# Altium integrated library Maxim Digital Potentiometers.IntLib: 1045 symbols (part 31 of 42)
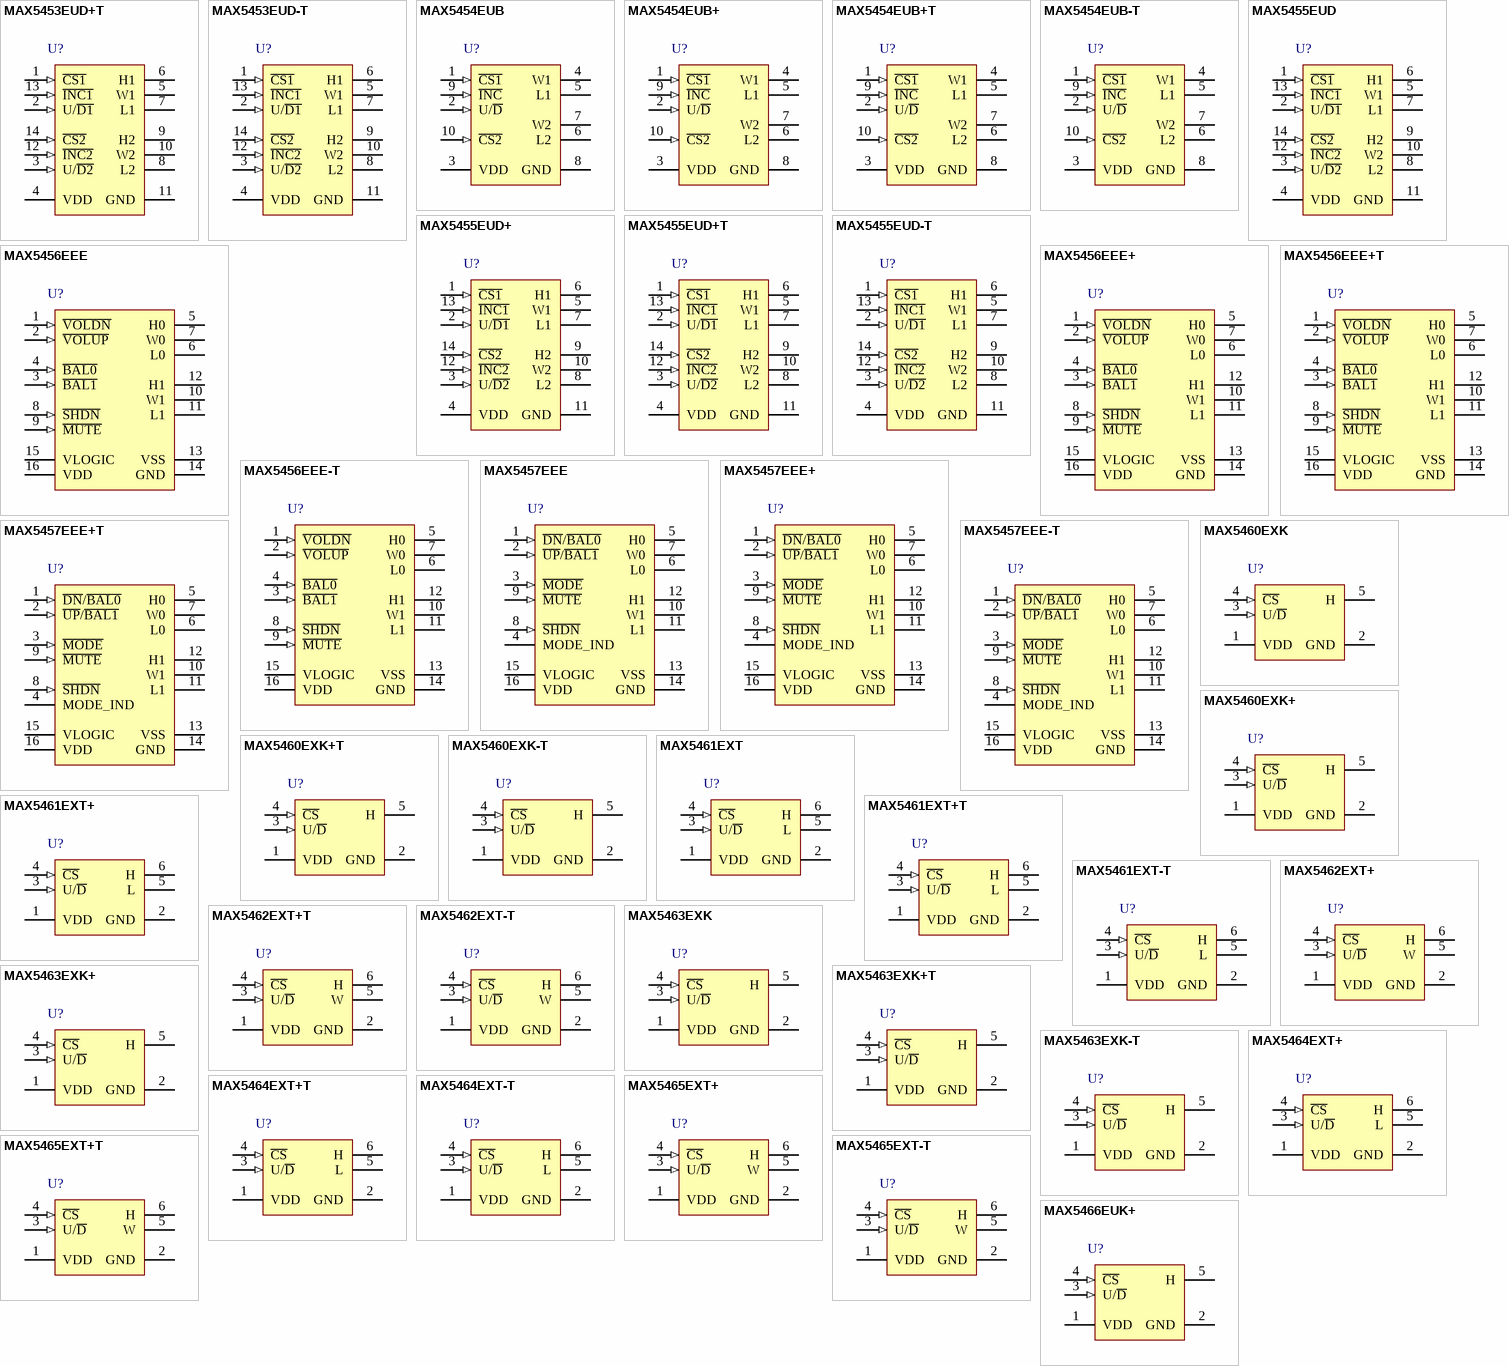
[diagram p59: symbols MAX5453EUD+T to MAX5466EUK+]

## MAX5455EUD
designator U?
Dual, Up/Down Interface Digital Potentiometers with Up/Down Control Interface, Volatile, Linear Taper, 256 Steps, -40 to 85 degC, 14-pin TSSOP (U14-1); PartNumber: MAX5455EUD; DatasheetVersion: Rev. 2; PackageVersion: Rev. L, 07/2010; PackageReference: U14-1; PackageDescription: 14-Pin Thin Shrink Small-Outline Package (U14-1), Body 5 x 4.4 mm, Pitch 0.65 mm; Supplier 1: Mouser; Supplier Part Number 1: N/A; Control Interface: Up/Down; Mounting Technology: Surface Mount; Code_JEDEC: MO-153; ComponentLink1Description: Manufacturer URL; ComponentLink1URL: http://www.maximintegrated.com/; ComponentLink2Description: Datasheet; ComponentLink2URL: http://datasheets.maximintegrated.com/en/ds/MAX5450-MAX5455.pdf; ComponentLink3Description: Package Specification; ComponentLink3URL: http://pdfserv.maximintegrated.com/package_dwgs/21-0066.PDF
footprint MAXM-U14-1_N (SOP, 14-Leads, Body 5x4.4mm, Pitch 0.65mm, IPC Medium Density)
footprint MAXM-U14-1_L (SOP, 14-Leads, Body 5x4.4mm, Pitch 0.65mm, IPC High Density)
footprint MAXM-U14-1_M (SOP, 14-Leads, Body 5x4.4mm, Pitch 0.65mm, IPC Low Density)
pins: 1 ~{CS1} (in) "Chip-Select Input of Resistor 1. Drive low to change wiper position W1 through I\N\C\ and U/D\.", 2 U/~{D1} (in) "Up/Down Control Input of Resistor 1. With U/D\1\ low, a high-to-low I\N\C\1\ transition decrements wiper position W1. With U/D\1\ high, a high-to-low I\N\C\1\ transition increments wiper position W1.", 3 U/~{D2} (in) "Up/Down Control Input of Resistor 2. With U/D\2\ low, a high-to-low I\N\C\2\ transition decrements wiper position W2.  With U/D\2\ high, a high-to-low I\N\C\2\ transition increments wiper position W2.", 4 VDD (power) "Power Supply", 5 W1 "Wiper Terminal of Resistor 1", 6 H1 "High Terminal of Resistor 1", 7 L1 "Low Terminal of Resistor 1", 8 L2 "Low Terminal of Resistor 2", 9 H2 "High Terminal of Resistor 2", 10 W2 "Wiper Terminal of Resistor 2", 11 GND (power) "Ground", 12 ~{INC2} (in) "Wiper Increment Control Input. With C\S\2\ low, a high-to-low transition increments (U/D\2\ high) or decrements (U/D\2\ low) wiper position W2.", 13 ~{INC1} (in) "Wiper Increment Control Input. With C\S\1\ low, a high-to-low transition increments (U/D\1\ high) or decrements (U/D\1\ low) wiper position W1.", 14 ~{CS2} (in) "Chip-Select Input of Resistor 2.  Drive low to change wiper position W2 through I\N\C\ and U/D\."

## MAX5455EUD+
designator U?
Dual, Up/Down Interface Digital Potentiometers with Up/Down Control Interface, Volatile, Linear Taper, 256 Steps, -40 to 85 degC, 14-pin TSSOP (U14+1), Pb-Free; PartNumber: MAX5455EUD+; DatasheetVersion: Rev. 2; PackageVersion: Rev. L, 07/2010; PackageReference: U14+1; PackageDescription: 14-Pin Thin Shrink Small-Outline Package (U14+1), Body 5 x 4.4 mm, Pitch 0.65 mm; Supplier 1: Digi-Key; Supplier Part Number 1: MAX5455EUD+-ND; Supplier 2: Farnell; Supplier Part Number 2: 2071780; Supplier 3: Mouser; Supplier Part Number 3: 700-MAX5455EUD; Control Interface: Up/Down; Mounting Technology: Surface Mount; Code_JEDEC: MO-153; ComponentLink1Description: Manufacturer URL; ComponentLink1URL: http://www.maximintegrated.com/; ComponentLink2Description: Datasheet; ComponentLink2URL: http://datasheets.maximintegrated.com/en/ds/MAX5450-MAX5455.pdf; ComponentLink3Description: Package Specification; ComponentLink3URL: http://pdfserv.maximintegrated.com/package_dwgs/21-0066.PDF
footprint MAXM-U14+1_N (SOP, 14-Leads, Body 5x4.4mm, Pitch 0.65mm, IPC Medium Density)
footprint MAXM-U14+1_L (SOP, 14-Leads, Body 5x4.4mm, Pitch 0.65mm, IPC High Density)
footprint MAXM-U14+1_M (SOP, 14-Leads, Body 5x4.4mm, Pitch 0.65mm, IPC Low Density)
pins: 1 ~{CS1} (in) "Chip-Select Input of Resistor 1. Drive low to change wiper position W1 through I\N\C\ and U/D\.", 2 U/~{D1} (in) "Up/Down Control Input of Resistor 1. With U/D\1\ low, a high-to-low I\N\C\1\ transition decrements wiper position W1. With U/D\1\ high, a high-to-low I\N\C\1\ transition increments wiper position W1.", 3 U/~{D2} (in) "Up/Down Control Input of Resistor 2. With U/D\2\ low, a high-to-low I\N\C\2\ transition decrements wiper position W2.  With U/D\2\ high, a high-to-low I\N\C\2\ transition increments wiper position W2.", 4 VDD (power) "Power Supply", 5 W1 "Wiper Terminal of Resistor 1", 6 H1 "High Terminal of Resistor 1", 7 L1 "Low Terminal of Resistor 1", 8 L2 "Low Terminal of Resistor 2", 9 H2 "High Terminal of Resistor 2", 10 W2 "Wiper Terminal of Resistor 2", 11 GND (power) "Ground", 12 ~{INC2} (in) "Wiper Increment Control Input. With C\S\2\ low, a high-to-low transition increments (U/D\2\ high) or decrements (U/D\2\ low) wiper position W2.", 13 ~{INC1} (in) "Wiper Increment Control Input. With C\S\1\ low, a high-to-low transition increments (U/D\1\ high) or decrements (U/D\1\ low) wiper position W1.", 14 ~{CS2} (in) "Chip-Select Input of Resistor 2.  Drive low to change wiper position W2 through I\N\C\ and U/D\."

## MAX5455EUD+T
designator U?
Dual, Up/Down Interface Digital Potentiometers with Up/Down Control Interface, Volatile, Linear Taper, 256 Steps, -40 to 85 degC, 14-pin TSSOP (U14+1), Pb-Free, Tape and Reel; PartNumber: MAX5455EUD+T; DatasheetVersion: Rev. 2; PackageVersion: Rev. L, 07/2010; PackageReference: U14+1; PackageDescription: 14-Pin Thin Shrink Small-Outline Package (U14+1), Body 5 x 4.4 mm, Pitch 0.65 mm; Supplier 1: Digi-Key; Supplier Part Number 1: MAX5455EUD+T-ND; Supplier 2: Mouser; Supplier Part Number 2: 700-MAX5455EUDT; Control Interface: Up/Down; Mounting Technology: Surface Mount; Code_JEDEC: MO-153; ComponentLink1Description: Manufacturer URL; ComponentLink1URL: http://www.maximintegrated.com/; ComponentLink2Description: Datasheet; ComponentLink2URL: http://datasheets.maximintegrated.com/en/ds/MAX5450-MAX5455.pdf; ComponentLink3Description: Package Specification; ComponentLink3URL: http://pdfserv.maximintegrated.com/package_dwgs/21-0066.PDF
footprint MAXM-U14+1_N (SOP, 14-Leads, Body 5x4.4mm, Pitch 0.65mm, IPC Medium Density)
footprint MAXM-U14+1_L (SOP, 14-Leads, Body 5x4.4mm, Pitch 0.65mm, IPC High Density)
footprint MAXM-U14+1_M (SOP, 14-Leads, Body 5x4.4mm, Pitch 0.65mm, IPC Low Density)
pins: 1 ~{CS1} (in) "Chip-Select Input of Resistor 1. Drive low to change wiper position W1 through I\N\C\ and U/D\.", 2 U/~{D1} (in) "Up/Down Control Input of Resistor 1. With U/D\1\ low, a high-to-low I\N\C\1\ transition decrements wiper position W1. With U/D\1\ high, a high-to-low I\N\C\1\ transition increments wiper position W1.", 3 U/~{D2} (in) "Up/Down Control Input of Resistor 2. With U/D\2\ low, a high-to-low I\N\C\2\ transition decrements wiper position W2.  With U/D\2\ high, a high-to-low I\N\C\2\ transition increments wiper position W2.", 4 VDD (power) "Power Supply", 5 W1 "Wiper Terminal of Resistor 1", 6 H1 "High Terminal of Resistor 1", 7 L1 "Low Terminal of Resistor 1", 8 L2 "Low Terminal of Resistor 2", 9 H2 "High Terminal of Resistor 2", 10 W2 "Wiper Terminal of Resistor 2", 11 GND (power) "Ground", 12 ~{INC2} (in) "Wiper Increment Control Input. With C\S\2\ low, a high-to-low transition increments (U/D\2\ high) or decrements (U/D\2\ low) wiper position W2.", 13 ~{INC1} (in) "Wiper Increment Control Input. With C\S\1\ low, a high-to-low transition increments (U/D\1\ high) or decrements (U/D\1\ low) wiper position W1.", 14 ~{CS2} (in) "Chip-Select Input of Resistor 2.  Drive low to change wiper position W2 through I\N\C\ and U/D\."

## MAX5455EUD-T
designator U?
Dual, Up/Down Interface Digital Potentiometers with Up/Down Control Interface, Volatile, Linear Taper, 256 Steps, -40 to 85 degC, 14-pin TSSOP (U14-1), Tape and Reel; PartNumber: MAX5455EUD-T; DatasheetVersion: Rev. 2; PackageVersion: Rev. L, 07/2010; PackageReference: U14-1; PackageDescription: 14-Pin Thin Shrink Small-Outline Package (U14-1), Body 5 x 4.4 mm, Pitch 0.65 mm; Supplier 1: Mouser; Supplier Part Number 1: N/A; Control Interface: Up/Down; Mounting Technology: Surface Mount; Code_JEDEC: MO-153; ComponentLink1Description: Manufacturer URL; ComponentLink1URL: http://www.maximintegrated.com/; ComponentLink2Description: Datasheet; ComponentLink2URL: http://datasheets.maximintegrated.com/en/ds/MAX5450-MAX5455.pdf; ComponentLink3Description: Package Specification; ComponentLink3URL: http://pdfserv.maximintegrated.com/package_dwgs/21-0066.PDF
footprint MAXM-U14-1_N (SOP, 14-Leads, Body 5x4.4mm, Pitch 0.65mm, IPC Medium Density)
footprint MAXM-U14-1_L (SOP, 14-Leads, Body 5x4.4mm, Pitch 0.65mm, IPC High Density)
footprint MAXM-U14-1_M (SOP, 14-Leads, Body 5x4.4mm, Pitch 0.65mm, IPC Low Density)
pins: 1 ~{CS1} (in) "Chip-Select Input of Resistor 1. Drive low to change wiper position W1 through I\N\C\ and U/D\.", 2 U/~{D1} (in) "Up/Down Control Input of Resistor 1. With U/D\1\ low, a high-to-low I\N\C\1\ transition decrements wiper position W1. With U/D\1\ high, a high-to-low I\N\C\1\ transition increments wiper position W1.", 3 U/~{D2} (in) "Up/Down Control Input of Resistor 2. With U/D\2\ low, a high-to-low I\N\C\2\ transition decrements wiper position W2.  With U/D\2\ high, a high-to-low I\N\C\2\ transition increments wiper position W2.", 4 VDD (power) "Power Supply", 5 W1 "Wiper Terminal of Resistor 1", 6 H1 "High Terminal of Resistor 1", 7 L1 "Low Terminal of Resistor 1", 8 L2 "Low Terminal of Resistor 2", 9 H2 "High Terminal of Resistor 2", 10 W2 "Wiper Terminal of Resistor 2", 11 GND (power) "Ground", 12 ~{INC2} (in) "Wiper Increment Control Input. With C\S\2\ low, a high-to-low transition increments (U/D\2\ high) or decrements (U/D\2\ low) wiper position W2.", 13 ~{INC1} (in) "Wiper Increment Control Input. With C\S\1\ low, a high-to-low transition increments (U/D\1\ high) or decrements (U/D\1\ low) wiper position W1.", 14 ~{CS2} (in) "Chip-Select Input of Resistor 2.  Drive low to change wiper position W2 through I\N\C\ and U/D\."

## MAX5456EEE
designator U?
Stereo Audio Taper Potentiometer with Debounced Pushbutton Up/Down Control Interface, Volatile, Log Taper, 32 Steps, -40 to 85 degC, 16-pin QSOP (E16-1); PartNumber: MAX5456EEE; DatasheetVersion: Rev. 2; PackageVersion: Rev. K, 04/2012; PackageReference: E16-1; PackageDescription: 16-Pin Quarter Small-Outline Package (E16-1), Body 4.90 x 3.89 mm, Pitch 0.635 mm; Supplier 1: Mouser; Supplier Part Number 1: N/A; Applications: Audio Control; Control Interface: Debounced Pushbutton Up/Down; Mounting Technology: Surface Mount; Code_JEDEC: MO137; ComponentLink1Description: Manufacturer URL; ComponentLink1URL: http://www.maximintegrated.com/; ComponentLink2Description: Datasheet; ComponentLink2URL: http://datasheets.maximintegrated.com/en/ds/MAX5456-MAX5457.pdf; ComponentLink3Description: Package Specification; ComponentLink3URL: http://pdfserv.maximintegrated.com/package_dwgs/21-0055.PDF
footprint MAXM-E16-1_N (SOP, 16-Leads, Body 4.9x3.89mm, Pitch 0.635mm, IPC Medium Density)
footprint MAXM-E16-1_L (SOP, 16-Leads, Body 4.9x3.89mm, Pitch 0.635mm, IPC High Density)
footprint MAXM-E16-1_M (SOP, 16-Leads, Body 4.9x3.89mm, Pitch 0.635mm, IPC Low Density)
pins: 1 ~{VOLDN} (in) "Downward Volume-Control Input. Pressing V\O\L\D\N\ moves both wipers towards the L terminals. V\O\L\D\N\ is internally pulled up with 50k ohm to VLOGIC.", 2 ~{VOLUP} (in) "Upward Volume-Control Input. Pressing V\O\L\U\P\ moves both wipers towards the H terminals. V\O\L\U\P\ is internally pulled up with 50k ohm to VLOGIC.", 3 ~{BAL1} (in) "Channel 1 Balance-Control Input. Pressing B\A\L\1\ moves the balance towards channel 1. B\A\L\1\ is internally pulled up with 50k ohm to VLOGIC.", 4 ~{BAL0} (in) "Channel 0 Balance-Control Input. Pressing B\A\L\0\ moves the balance towards channel 0. B\A\L\0\ is internally pulled up with 50k ohm to VLOGIC.", 5 H0 "Potentiometer 0 High Terminal. H0 and L0 terminals can be reversed.", 6 L0 "Potentiometer 0 Low Terminal. L0 and H0 terminals can be reversed.", 7 W0 "Potentiometer 0 Wiper Terminal", 8 ~{SHDN} (in) "Active-Low Shutdown Input. In shutdown mode, the MAX5456/MAX5457 store the last wiper settings. The wipers move to the L end of the resistor string, and the H end of the resistor string disconnects from the signal input. (See Datasheet)", 9 ~{MUTE} (in) "Mute Input. When M\U\T\E\ is low, the wiper goes to the highest attenuation setting (see Table 1). M\U\T\E\ is internally pulled up with 50k ohm to VLOGIC.", 10 W1 "Potentiometer 1 Wiper Terminal", 11 L1 "Potentiometer 1 Low Terminal. L1 and H1 terminals can be reversed.", 12 H1 "Potentiometer 1 High Terminal. H1 and L1 terminals can be reversed.", 13 VSS (power) "Negative Power Supply. Bypass with 0.1uF to ground.", 14 GND (power) "Ground", 15 VLOGIC (power) "Digital Logic Power Supply. Bypass with 0.1uF to ground.", 16 VDD (power) "Analog Power Supply. Bypass with 0.1uF to ground."

## MAX5456EEE+
designator U?
Stereo Audio Taper Potentiometer with Debounced Pushbutton Up/Down Control Interface, Volatile, Log Taper, 32 Steps, -40 to 85 degC, 16-pin QSOP (E16+1), Pb-Free; PartNumber: MAX5456EEE+; DatasheetVersion: Rev. 2; PackageVersion: Rev. K, 04/2012; PackageReference: E16+1; PackageDescription: 16-Pin Quarter Small-Outline Package (E16+1), Body 4.90 x 3.89 mm, Pitch 0.635 mm; Supplier 1: Digi-Key; Supplier Part Number 1: MAX5456EEE+-ND; Supplier 2: Farnell; Supplier Part Number 2: 1714916; Supplier 3: Newark; Supplier Part Number 3: 37K8018; Supplier 4: Mouser; Supplier Part Number 4: 700-MAX5456EEE; Applications: Audio Control; Control Interface: Debounced Pushbutton Up/Down; Mounting Technology: Surface Mount; Code_JEDEC: MO137; ComponentLink1Description: Manufacturer URL; ComponentLink1URL: http://www.maximintegrated.com/; ComponentLink2Description: Datasheet; ComponentLink2URL: http://datasheets.maximintegrated.com/en/ds/MAX5456-MAX5457.pdf; ComponentLink3Description: Package Specification; ComponentLink3URL: http://pdfserv.maximintegrated.com/package_dwgs/21-0055.PDF
footprint MAXM-E16+1_N (SOP, 16-Leads, Body 4.9x3.89mm, Pitch 0.635mm, IPC Medium Density)
footprint MAXM-E16+1_L (SOP, 16-Leads, Body 4.9x3.89mm, Pitch 0.635mm, IPC High Density)
footprint MAXM-E16+1_M (SOP, 16-Leads, Body 4.9x3.89mm, Pitch 0.635mm, IPC Low Density)
pins: 1 ~{VOLDN} (in) "Downward Volume-Control Input. Pressing V\O\L\D\N\ moves both wipers towards the L terminals. V\O\L\D\N\ is internally pulled up with 50k ohm to VLOGIC.", 2 ~{VOLUP} (in) "Upward Volume-Control Input. Pressing V\O\L\U\P\ moves both wipers towards the H terminals. V\O\L\U\P\ is internally pulled up with 50k ohm to VLOGIC.", 3 ~{BAL1} (in) "Channel 1 Balance-Control Input. Pressing B\A\L\1\ moves the balance towards channel 1. B\A\L\1\ is internally pulled up with 50k ohm to VLOGIC.", 4 ~{BAL0} (in) "Channel 0 Balance-Control Input. Pressing B\A\L\0\ moves the balance towards channel 0. B\A\L\0\ is internally pulled up with 50k ohm to VLOGIC.", 5 H0 "Potentiometer 0 High Terminal. H0 and L0 terminals can be reversed.", 6 L0 "Potentiometer 0 Low Terminal. L0 and H0 terminals can be reversed.", 7 W0 "Potentiometer 0 Wiper Terminal", 8 ~{SHDN} (in) "Active-Low Shutdown Input. In shutdown mode, the MAX5456/MAX5457 store the last wiper settings. The wipers move to the L end of the resistor string, and the H end of the resistor string disconnects from the signal input. (See Datasheet)", 9 ~{MUTE} (in) "Mute Input. When M\U\T\E\ is low, the wiper goes to the highest attenuation setting (see Table 1). M\U\T\E\ is internally pulled up with 50k ohm to VLOGIC.", 10 W1 "Potentiometer 1 Wiper Terminal", 11 L1 "Potentiometer 1 Low Terminal. L1 and H1 terminals can be reversed.", 12 H1 "Potentiometer 1 High Terminal. H1 and L1 terminals can be reversed.", 13 VSS (power) "Negative Power Supply. Bypass with 0.1uF to ground.", 14 GND (power) "Ground", 15 VLOGIC (power) "Digital Logic Power Supply. Bypass with 0.1uF to ground.", 16 VDD (power) "Analog Power Supply. Bypass with 0.1uF to ground."

## MAX5456EEE+T
designator U?
Stereo Audio Taper Potentiometer with Debounced Pushbutton Up/Down Control Interface, Volatile, Log Taper, 32 Steps, -40 to 85 degC, 16-pin QSOP (E16+1), Pb-Free, Tape and Reel; PartNumber: MAX5456EEE+T; DatasheetVersion: Rev. 2; PackageVersion: Rev. K, 04/2012; PackageReference: E16+1; PackageDescription: 16-Pin Quarter Small-Outline Package (E16+1), Body 4.90 x 3.89 mm, Pitch 0.635 mm; Supplier 1: Digi-Key; Supplier Part Number 1: MAX5456EEE+T-ND; Supplier 2: Mouser; Supplier Part Number 2: 700-MAX5456EEET; Applications: Audio Control; Control Interface: Debounced Pushbutton Up/Down; Mounting Technology: Surface Mount; Code_JEDEC: MO137; ComponentLink1Description: Manufacturer URL; ComponentLink1URL: http://www.maximintegrated.com/; ComponentLink2Description: Datasheet; ComponentLink2URL: http://datasheets.maximintegrated.com/en/ds/MAX5456-MAX5457.pdf; ComponentLink3Description: Package Specification; ComponentLink3URL: http://pdfserv.maximintegrated.com/package_dwgs/21-0055.PDF
footprint MAXM-E16+1_N (SOP, 16-Leads, Body 4.9x3.89mm, Pitch 0.635mm, IPC Medium Density)
footprint MAXM-E16+1_L (SOP, 16-Leads, Body 4.9x3.89mm, Pitch 0.635mm, IPC High Density)
footprint MAXM-E16+1_M (SOP, 16-Leads, Body 4.9x3.89mm, Pitch 0.635mm, IPC Low Density)
pins: 1 ~{VOLDN} (in) "Downward Volume-Control Input. Pressing V\O\L\D\N\ moves both wipers towards the L terminals. V\O\L\D\N\ is internally pulled up with 50k ohm to VLOGIC.", 2 ~{VOLUP} (in) "Upward Volume-Control Input. Pressing V\O\L\U\P\ moves both wipers towards the H terminals. V\O\L\U\P\ is internally pulled up with 50k ohm to VLOGIC.", 3 ~{BAL1} (in) "Channel 1 Balance-Control Input. Pressing B\A\L\1\ moves the balance towards channel 1. B\A\L\1\ is internally pulled up with 50k ohm to VLOGIC.", 4 ~{BAL0} (in) "Channel 0 Balance-Control Input. Pressing B\A\L\0\ moves the balance towards channel 0. B\A\L\0\ is internally pulled up with 50k ohm to VLOGIC.", 5 H0 "Potentiometer 0 High Terminal. H0 and L0 terminals can be reversed.", 6 L0 "Potentiometer 0 Low Terminal. L0 and H0 terminals can be reversed.", 7 W0 "Potentiometer 0 Wiper Terminal", 8 ~{SHDN} (in) "Active-Low Shutdown Input. In shutdown mode, the MAX5456/MAX5457 store the last wiper settings. The wipers move to the L end of the resistor string, and the H end of the resistor string disconnects from the signal input. (See Datasheet)", 9 ~{MUTE} (in) "Mute Input. When M\U\T\E\ is low, the wiper goes to the highest attenuation setting (see Table 1). M\U\T\E\ is internally pulled up with 50k ohm to VLOGIC.", 10 W1 "Potentiometer 1 Wiper Terminal", 11 L1 "Potentiometer 1 Low Terminal. L1 and H1 terminals can be reversed.", 12 H1 "Potentiometer 1 High Terminal. H1 and L1 terminals can be reversed.", 13 VSS (power) "Negative Power Supply. Bypass with 0.1uF to ground.", 14 GND (power) "Ground", 15 VLOGIC (power) "Digital Logic Power Supply. Bypass with 0.1uF to ground.", 16 VDD (power) "Analog Power Supply. Bypass with 0.1uF to ground."

## MAX5456EEE-T
designator U?
Stereo Audio Taper Potentiometer with Debounced Pushbutton Up/Down Control Interface, Volatile, Log Taper, 32 Steps, -40 to 85 degC, 16-pin QSOP (E16-1), Tape and Reel; PartNumber: MAX5456EEE-T; DatasheetVersion: Rev. 2; PackageVersion: Rev. K, 04/2012; PackageReference: E16-1; PackageDescription: 16-Pin Quarter Small-Outline Package (E16-1), Body 4.90 x 3.89 mm, Pitch 0.635 mm; Supplier 1: Mouser; Supplier Part Number 1: N/A; Applications: Audio Control; Control Interface: Debounced Pushbutton Up/Down; Mounting Technology: Surface Mount; Code_JEDEC: MO137; ComponentLink1Description: Manufacturer URL; ComponentLink1URL: http://www.maximintegrated.com/; ComponentLink2Description: Datasheet; ComponentLink2URL: http://datasheets.maximintegrated.com/en/ds/MAX5456-MAX5457.pdf; ComponentLink3Description: Package Specification; ComponentLink3URL: http://pdfserv.maximintegrated.com/package_dwgs/21-0055.PDF
footprint MAXM-E16-1_N (SOP, 16-Leads, Body 4.9x3.89mm, Pitch 0.635mm, IPC Medium Density)
footprint MAXM-E16-1_L (SOP, 16-Leads, Body 4.9x3.89mm, Pitch 0.635mm, IPC High Density)
footprint MAXM-E16-1_M (SOP, 16-Leads, Body 4.9x3.89mm, Pitch 0.635mm, IPC Low Density)
pins: 1 ~{VOLDN} (in) "Downward Volume-Control Input. Pressing V\O\L\D\N\ moves both wipers towards the L terminals. V\O\L\D\N\ is internally pulled up with 50k ohm to VLOGIC.", 2 ~{VOLUP} (in) "Upward Volume-Control Input. Pressing V\O\L\U\P\ moves both wipers towards the H terminals. V\O\L\U\P\ is internally pulled up with 50k ohm to VLOGIC.", 3 ~{BAL1} (in) "Channel 1 Balance-Control Input. Pressing B\A\L\1\ moves the balance towards channel 1. B\A\L\1\ is internally pulled up with 50k ohm to VLOGIC.", 4 ~{BAL0} (in) "Channel 0 Balance-Control Input. Pressing B\A\L\0\ moves the balance towards channel 0. B\A\L\0\ is internally pulled up with 50k ohm to VLOGIC.", 5 H0 "Potentiometer 0 High Terminal. H0 and L0 terminals can be reversed.", 6 L0 "Potentiometer 0 Low Terminal. L0 and H0 terminals can be reversed.", 7 W0 "Potentiometer 0 Wiper Terminal", 8 ~{SHDN} (in) "Active-Low Shutdown Input. In shutdown mode, the MAX5456/MAX5457 store the last wiper settings. The wipers move to the L end of the resistor string, and the H end of the resistor string disconnects from the signal input. (See Datasheet)", 9 ~{MUTE} (in) "Mute Input. When M\U\T\E\ is low, the wiper goes to the highest attenuation setting (see Table 1). M\U\T\E\ is internally pulled up with 50k ohm to VLOGIC.", 10 W1 "Potentiometer 1 Wiper Terminal", 11 L1 "Potentiometer 1 Low Terminal. L1 and H1 terminals can be reversed.", 12 H1 "Potentiometer 1 High Terminal. H1 and L1 terminals can be reversed.", 13 VSS (power) "Negative Power Supply. Bypass with 0.1uF to ground.", 14 GND (power) "Ground", 15 VLOGIC (power) "Digital Logic Power Supply. Bypass with 0.1uF to ground.", 16 VDD (power) "Analog Power Supply. Bypass with 0.1uF to ground."

## MAX5457EEE
designator U?
Stereo Audio Taper Potentiometer with Debounced Pushbutton Up/Down Control Interface, Volatile, Log Taper, 32 Steps, -40 to 85 degC, 16-pin QSOP (E16-1); PartNumber: MAX5457EEE; DatasheetVersion: Rev. 2; PackageVersion: Rev. K, 04/2012; PackageReference: E16-1; PackageDescription: 16-Pin Quarter Small-Outline Package (E16-1), Body 4.90 x 3.89 mm, Pitch 0.635 mm; Supplier 1: Mouser; Supplier Part Number 1: N/A; Applications: Audio Control; Control Interface: Debounced Pushbutton Up/Down; Mounting Technology: Surface Mount; Code_JEDEC: MO137; ComponentLink1Description: Manufacturer URL; ComponentLink1URL: http://www.maximintegrated.com/; ComponentLink2Description: Datasheet; ComponentLink2URL: http://datasheets.maximintegrated.com/en/ds/MAX5456-MAX5457.pdf; ComponentLink3Description: Package Specification; ComponentLink3URL: http://pdfserv.maximintegrated.com/package_dwgs/21-0055.PDF
footprint MAXM-E16-1_N (SOP, 16-Leads, Body 4.9x3.89mm, Pitch 0.635mm, IPC Medium Density)
footprint MAXM-E16-1_L (SOP, 16-Leads, Body 4.9x3.89mm, Pitch 0.635mm, IPC High Density)
footprint MAXM-E16-1_M (SOP, 16-Leads, Body 4.9x3.89mm, Pitch 0.635mm, IPC Low Density)
pins: 1 ~{DN}/~{BAL0} (in) "Downward Volume/Channel 0 Balance-Control Input. In volume mode, pressing D\N\/B\A\L\0\ moves both wipers towards the L terminals. In balance mode, pressing D\N\/B\A\L\0\ moves the balance towards channel 0. D\N\/B\A\L\0\ is (See Datasheet)", 2 ~{UP}/~{BAL1} (in) "Upward Volume/Channel 1 Balance-Control Input. In volume mode, pressing U\P\/B\A\L\1\ moves both wipers towards the H terminals. In balance mode, pressing U\P\/B\A\L\1\ moves the balance towards channel 1. U\P\/B\A\L\1\ is (See Datasheet)", 3 ~{MODE} (in) "Volume/Balance Control. Each transition from high to low toggles between volume and balance modes. M\O\D\E\ is pulled high internally with a 50k ohm resistor to VLOGIC. On power-up, the MAX5457 is in volume-control mode.", 4 MODE_IND (oc) "Volume-Control/Balance-Control Mode Indicator Open-Drain Output. Connect to an LED through a resistor to VLOGIC. When the LED is on, the MAX5457 is in balancecontrol mode. When the LED is off, the MAX5457 is in (See Datasheet)", 5 H0 "Potentiometer 0 High Terminal. H0 and L0 terminals can be reversed.", 6 L0 "Potentiometer 0 Low Terminal. L0 and H0 terminals can be reversed.", 7 W0 "Potentiometer 0 Wiper Terminal", 8 ~{SHDN} (in) "Active-Low Shutdown Input. In shutdown mode, the MAX5456/MAX5457 store the last wiper settings. The wipers move to the L end of the resistor string, and the H end of the resistor string disconnects from the signal input. (See Datasheet)", 9 ~{MUTE} (in) "Mute Input. When M\U\T\E\ is low, the wiper goes to the highest attenuation setting (see Table 1). M\U\T\E\ is internally pulled up with 50k ohm to VLOGIC.", 10 W1 "Potentiometer 1 Wiper Terminal", 11 L1 "Potentiometer 1 Low Terminal. L1 and H1 terminals can be reversed.", 12 H1 "Potentiometer 1 High Terminal. H1 and L1 terminals can be reversed.", 13 VSS (power) "Negative Power Supply. Bypass with 0.1uF to ground.", 14 GND (power) "Ground", 15 VLOGIC (power) "Digital Logic Power Supply. Bypass with 0.1uF to ground.", 16 VDD (power) "Analog Power Supply. Bypass with 0.1uF to ground."

## MAX5457EEE+
designator U?
Stereo Audio Taper Potentiometer with Debounced Pushbutton Up/Down Control Interface, Volatile, Log Taper, 32 Steps, -40 to 85 degC, 16-pin QSOP (E16+1), Pb-Free; PartNumber: MAX5457EEE+; DatasheetVersion: Rev. 2; PackageVersion: Rev. K, 04/2012; PackageReference: E16+1; PackageDescription: 16-Pin Quarter Small-Outline Package (E16+1), Body 4.90 x 3.89 mm, Pitch 0.635 mm; Supplier 1: Digi-Key; Supplier Part Number 1: MAX5457EEE+-ND; Supplier 2: Newark; Supplier Part Number 2: 37K8024; Supplier 3: Mouser; Supplier Part Number 3: 700-MAX5457EEE; Applications: Audio Control; Control Interface: Debounced Pushbutton Up/Down; Mounting Technology: Surface Mount; Code_JEDEC: MO137; ComponentLink1Description: Manufacturer URL; ComponentLink1URL: http://www.maximintegrated.com/; ComponentLink2Description: Datasheet; ComponentLink2URL: http://datasheets.maximintegrated.com/en/ds/MAX5456-MAX5457.pdf; ComponentLink3Description: Package Specification; ComponentLink3URL: http://pdfserv.maximintegrated.com/package_dwgs/21-0055.PDF
footprint MAXM-E16+1_N (SOP, 16-Leads, Body 4.9x3.89mm, Pitch 0.635mm, IPC Medium Density)
footprint MAXM-E16+1_L (SOP, 16-Leads, Body 4.9x3.89mm, Pitch 0.635mm, IPC High Density)
footprint MAXM-E16+1_M (SOP, 16-Leads, Body 4.9x3.89mm, Pitch 0.635mm, IPC Low Density)
pins: 1 ~{DN}/~{BAL0} (in) "Downward Volume/Channel 0 Balance-Control Input. In volume mode, pressing D\N\/B\A\L\0\ moves both wipers towards the L terminals. In balance mode, pressing D\N\/B\A\L\0\ moves the balance towards channel 0. D\N\/B\A\L\0\ is (See Datasheet)", 2 ~{UP}/~{BAL1} (in) "Upward Volume/Channel 1 Balance-Control Input. In volume mode, pressing U\P\/B\A\L\1\ moves both wipers towards the H terminals. In balance mode, pressing U\P\/B\A\L\1\ moves the balance towards channel 1. U\P\/B\A\L\1\ is (See Datasheet)", 3 ~{MODE} (in) "Volume/Balance Control. Each transition from high to low toggles between volume and balance modes. M\O\D\E\ is pulled high internally with a 50k ohm resistor to VLOGIC. On power-up, the MAX5457 is in volume-control mode.", 4 MODE_IND (oc) "Volume-Control/Balance-Control Mode Indicator Open-Drain Output. Connect to an LED through a resistor to VLOGIC. When the LED is on, the MAX5457 is in balancecontrol mode. When the LED is off, the MAX5457 is in (See Datasheet)", 5 H0 "Potentiometer 0 High Terminal. H0 and L0 terminals can be reversed.", 6 L0 "Potentiometer 0 Low Terminal. L0 and H0 terminals can be reversed.", 7 W0 "Potentiometer 0 Wiper Terminal", 8 ~{SHDN} (in) "Active-Low Shutdown Input. In shutdown mode, the MAX5456/MAX5457 store the last wiper settings. The wipers move to the L end of the resistor string, and the H end of the resistor string disconnects from the signal input. (See Datasheet)", 9 ~{MUTE} (in) "Mute Input. When M\U\T\E\ is low, the wiper goes to the highest attenuation setting (see Table 1). M\U\T\E\ is internally pulled up with 50k ohm to VLOGIC.", 10 W1 "Potentiometer 1 Wiper Terminal", 11 L1 "Potentiometer 1 Low Terminal. L1 and H1 terminals can be reversed.", 12 H1 "Potentiometer 1 High Terminal. H1 and L1 terminals can be reversed.", 13 VSS (power) "Negative Power Supply. Bypass with 0.1uF to ground.", 14 GND (power) "Ground", 15 VLOGIC (power) "Digital Logic Power Supply. Bypass with 0.1uF to ground.", 16 VDD (power) "Analog Power Supply. Bypass with 0.1uF to ground."

## MAX5457EEE+T
designator U?
Stereo Audio Taper Potentiometer (3-button) with Debounced Pushbutton Up/Down Control Interface, Volatile, Log Taper, 32 Steps, -40 to 85 degC, 16-pin QSOP (E16+1), Pb-free, Tape and Reel; PartNumber: MAX5457EEE+T; DatasheetVersion: Rev. 2; PackageVersion: Rev. K, 04/2012; PackageReference: E16+1; PackageDescription: 16-Pin Quarter Small-Outline Package (E16+1), Body 4.90 x 3.89 mm, Pitch 0.635 mm; Supplier 1: Digi-Key; Supplier Part Number 1: MAX5457EEE+T-ND; Supplier 2: Mouser; Supplier Part Number 2: 700-MAX5457EEET; Applications: Audio Control; Control Interface: Debounced Pushbutton Up/Down; Mounting Technology: Surface Mount; Code_JEDEC: MO137; ComponentLink1Description: Manufacturer URL; ComponentLink1URL: http://www.maximintegrated.com/; ComponentLink2Description: Datasheet; ComponentLink2URL: http://datasheets.maximintegrated.com/en/ds/MAX5456-MAX5457.pdf; ComponentLink3Description: Package Specification; ComponentLink3URL: http://pdfserv.maximintegrated.com/package_dwgs/21-0055.PDF
footprint MAXM-E16+1_N (SOP, 16-Leads, Body 4.9x3.89mm, Pitch 0.635mm, IPC Medium Density)
footprint MAXM-E16+1_L (SOP, 16-Leads, Body 4.9x3.89mm, Pitch 0.635mm, IPC High Density)
footprint MAXM-E16+1_M (SOP, 16-Leads, Body 4.9x3.89mm, Pitch 0.635mm, IPC Low Density)
pins: 1 ~{DN}/~{BAL0} (in) "Downward Volume/Channel 0 Balance-Control Input. In volume mode, pressing D\N\/B\A\L\0\ moves both wipers towards the L terminals. In balance mode, pressing D\N\/B\A\L\0\ moves the balance towards channel 0. D\N\/B\A\L\0\ is (See Datasheet)", 2 ~{UP}/~{BAL1} (in) "Upward Volume/Channel 1 Balance-Control Input. In volume mode, pressing U\P\/B\A\L\1\ moves both wipers towards the H terminals. In balance mode, pressing U\P\/B\A\L\1\ moves the balance towards channel 1. U\P\/B\A\L\1\ is (See Datasheet)", 3 ~{MODE} (in) "Volume/Balance Control. Each transition from high to low toggles between volume and balance modes. M\O\D\E\ is pulled high internally with a 50k ohm resistor to VLOGIC. On power-up, the MAX5457 is in volume-control mode.", 4 MODE_IND (oc) "Volume-Control/Balance-Control Mode Indicator Open-Drain Output. Connect to an LED through a resistor to VLOGIC. When the LED is on, the MAX5457 is in balancecontrol mode. When the LED is off, the MAX5457 is in (See Datasheet)", 5 H0 "Potentiometer 0 High Terminal. H0 and L0 terminals can be reversed.", 6 L0 "Potentiometer 0 Low Terminal. L0 and H0 terminals can be reversed.", 7 W0 "Potentiometer 0 Wiper Terminal", 8 ~{SHDN} (in) "Active-Low Shutdown Input. In shutdown mode, the MAX5456/MAX5457 store the last wiper settings. The wipers move to the L end of the resistor string, and the H end of the resistor string disconnects from the signal input. (See Datasheet)", 9 ~{MUTE} (in) "Mute Input. When M\U\T\E\ is low, the wiper goes to the highest attenuation setting (see Table 1). M\U\T\E\ is internally pulled up with 50k ohm to VLOGIC.", 10 W1 "Potentiometer 1 Wiper Terminal", 11 L1 "Potentiometer 1 Low Terminal. L1 and H1 terminals can be reversed.", 12 H1 "Potentiometer 1 High Terminal. H1 and L1 terminals can be reversed.", 13 VSS (power) "Negative Power Supply. Bypass with 0.1uF to ground.", 14 GND (power) "Ground", 15 VLOGIC (power) "Digital Logic Power Supply. Bypass with 0.1uF to ground.", 16 VDD (power) "Analog Power Supply. Bypass with 0.1uF to ground."

## MAX5457EEE-T
designator U?
Stereo Audio Taper Potentiometer (3-button) with Debounced Pushbutton Up/Down Control Interface, Volatile, Log Taper, 32 Steps, -40 to 85 degC, 16-pin QSOP (E16-1), Tape and Reel; PartNumber: MAX5457EEE-T; DatasheetVersion: Rev. 2; PackageVersion: Rev. K, 04/2012; PackageReference: E16-1; PackageDescription: 16-Pin Quarter Small-Outline Package (E16-1), Body 4.90 x 3.89 mm, Pitch 0.635 mm; Supplier 1: Mouser; Supplier Part Number 1: N/A; Applications: Audio Control; Control Interface: Debounced Pushbutton Up/Down; Mounting Technology: Surface Mount; Code_JEDEC: MO137; ComponentLink1Description: Manufacturer URL; ComponentLink1URL: http://www.maximintegrated.com/; ComponentLink2Description: Datasheet; ComponentLink2URL: http://datasheets.maximintegrated.com/en/ds/MAX5456-MAX5457.pdf; ComponentLink3Description: Package Specification; ComponentLink3URL: http://pdfserv.maximintegrated.com/package_dwgs/21-0055.PDF
footprint MAXM-E16-1_N (SOP, 16-Leads, Body 4.9x3.89mm, Pitch 0.635mm, IPC Medium Density)
footprint MAXM-E16-1_L (SOP, 16-Leads, Body 4.9x3.89mm, Pitch 0.635mm, IPC High Density)
footprint MAXM-E16-1_M (SOP, 16-Leads, Body 4.9x3.89mm, Pitch 0.635mm, IPC Low Density)
pins: 1 ~{DN}/~{BAL0} (in) "Downward Volume/Channel 0 Balance-Control Input. In volume mode, pressing D\N\/B\A\L\0\ moves both wipers towards the L terminals. In balance mode, pressing D\N\/B\A\L\0\ moves the balance towards channel 0. D\N\/B\A\L\0\ is (See Datasheet)", 2 ~{UP}/~{BAL1} (in) "Upward Volume/Channel 1 Balance-Control Input. In volume mode, pressing U\P\/B\A\L\1\ moves both wipers towards the H terminals. In balance mode, pressing U\P\/B\A\L\1\ moves the balance towards channel 1. U\P\/B\A\L\1\ is (See Datasheet)", 3 ~{MODE} (in) "Volume/Balance Control. Each transition from high to low toggles between volume and balance modes. M\O\D\E\ is pulled high internally with a 50k ohm resistor to VLOGIC. On power-up, the MAX5457 is in volume-control mode.", 4 MODE_IND (oc) "Volume-Control/Balance-Control Mode Indicator Open-Drain Output. Connect to an LED through a resistor to VLOGIC. When the LED is on, the MAX5457 is in balancecontrol mode. When the LED is off, the MAX5457 is in (See Datasheet)", 5 H0 "Potentiometer 0 High Terminal. H0 and L0 terminals can be reversed.", 6 L0 "Potentiometer 0 Low Terminal. L0 and H0 terminals can be reversed.", 7 W0 "Potentiometer 0 Wiper Terminal", 8 ~{SHDN} (in) "Active-Low Shutdown Input. In shutdown mode, the MAX5456/MAX5457 store the last wiper settings. The wipers move to the L end of the resistor string, and the H end of the resistor string disconnects from the signal input. (See Datasheet)", 9 ~{MUTE} (in) "Mute Input. When M\U\T\E\ is low, the wiper goes to the highest attenuation setting (see Table 1). M\U\T\E\ is internally pulled up with 50k ohm to VLOGIC.", 10 W1 "Potentiometer 1 Wiper Terminal", 11 L1 "Potentiometer 1 Low Terminal. L1 and H1 terminals can be reversed.", 12 H1 "Potentiometer 1 High Terminal. H1 and L1 terminals can be reversed.", 13 VSS (power) "Negative Power Supply. Bypass with 0.1uF to ground.", 14 GND (power) "Ground", 15 VLOGIC (power) "Digital Logic Power Supply. Bypass with 0.1uF to ground.", 16 VDD (power) "Analog Power Supply. Bypass with 0.1uF to ground."

## MAX5460EXK
designator U?
FleaPot 2-Wire Digital Potentiometers with 2-Wire Serial Control Interface, Volatile, Linear Taper, 32 Steps, -40 to 85 degC, 5-pin SC70 (X5-1); PartNumber: MAX5460EXK; DatasheetVersion: Rev. 3; PackageVersion: Rev. F, 06/2011; PackageReference: X5-1; PackageDescription: 5-Pin SC70 Transistor Package (X5-1), Body 2 x 1.25 mm, Pitch 0.65 mm; Supplier 1: Mouser; Supplier Part Number 1: N/A; Control Interface: 2-Wire Serial; Mounting Technology: Surface Mount; Code_JEDEC: MO-203; ComponentLink1Description: Manufacturer URL; ComponentLink1URL: http://www.maximintegrated.com/; ComponentLink2Description: Datasheet; ComponentLink2URL: http://datasheets.maximintegrated.com/en/ds/MAX5460-MAX5468.pdf; ComponentLink3Description: Package Specification; ComponentLink3URL: http://pdfserv.maximintegrated.com/package_dwgs/21-0076.PDF
footprint MAXM-X5-1_N (SOT23, 5-Leads, Body 2x1.25mm, Pitch 0.65mm, IPC Medium Density)
footprint MAXM-X5-1_L (SOT23, 5-Leads, Body 2x1.25mm, Pitch 0.65mm, IPC High Density)
footprint MAXM-X5-1_M (SOT23, 5-Leads, Body 2x1.25mm, Pitch 0.65mm, IPC Low Density)
pins: 1 VDD (power) "Power Supply", 2 GND (power) "Ground", 3 U/~{D} (in) "Up/D\o\w\n\ Control Input. With C\S\ low, a low-to-high transition increments or decrements the wiper position", 4 ~{CS} (in) "Chip Select Input. A high-to-low C\S\ transition determines the mode: increment if U/D\ is high, or decrement if U/D\ is low", 5 H "High Terminal of Resistor"

## MAX5460EXK+
designator U?
FleaPot 2-Wire Digital Potentiometers with 2-Wire Serial Control Interface, Volatile, Linear Taper, 32 Steps, -40 to 85 degC, 5-pin SC70 (X5+1), Pb-Free; PartNumber: MAX5460EXK+; DatasheetVersion: Rev. 3; PackageVersion: Rev. F, 06/2011; PackageReference: X5+1; PackageDescription: 5-Pin SC70 Transistor Package (X5+1), Body 2 x 1.25 mm, Pitch 0.65 mm; Supplier 1: Mouser; Supplier Part Number 1: N/A; Control Interface: 2-Wire Serial; Mounting Technology: Surface Mount; Code_JEDEC: MO-203; ComponentLink1Description: Manufacturer URL; ComponentLink1URL: http://www.maximintegrated.com/; ComponentLink2Description: Datasheet; ComponentLink2URL: http://datasheets.maximintegrated.com/en/ds/MAX5460-MAX5468.pdf; ComponentLink3Description: Package Specification; ComponentLink3URL: http://pdfserv.maximintegrated.com/package_dwgs/21-0076.PDF
footprint MAXM-X5+1_N (SOT23, 5-Leads, Body 2x1.25mm, Pitch 0.65mm, IPC Medium Density)
footprint MAXM-X5+1_L (SOT23, 5-Leads, Body 2x1.25mm, Pitch 0.65mm, IPC High Density)
footprint MAXM-X5+1_M (SOT23, 5-Leads, Body 2x1.25mm, Pitch 0.65mm, IPC Low Density)
pins: 1 VDD (power) "Power Supply", 2 GND (power) "Ground", 3 U/~{D} (in) "Up/D\o\w\n\ Control Input. With C\S\ low, a low-to-high transition increments or decrements the wiper position", 4 ~{CS} (in) "Chip Select Input. A high-to-low C\S\ transition determines the mode: increment if U/D\ is high, or decrement if U/D\ is low", 5 H "High Terminal of Resistor"

## MAX5460EXK+T
designator U?
FleaPot 2-Wire Digital Potentiometers with 2-Wire Serial Control Interface, Volatile, Linear Taper, 32 Steps, -40 to 85 degC, 5-pin SC70 (X5+1), Pb-Free, Tape and Reel; PartNumber: MAX5460EXK+T; DatasheetVersion: Rev. 3; PackageVersion: Rev. F, 06/2011; PackageReference: X5+1; PackageDescription: 5-Pin SC70 Transistor Package (X5+1), Body 2 x 1.25 mm, Pitch 0.65 mm; Supplier 1: Digi-Key; Supplier Part Number 1: MAX5460EXK+TTR-ND; Supplier 2: Digi-Key; Supplier Part Number 2: MAX5460EXK+TCT-ND; Supplier 3: Digi-Key; Supplier Part Number 3: MAX5460EXK+TDKR-ND; Supplier 4: Mouser; Supplier Part Number 4: 700-MAX5460EXKT; Control Interface: 2-Wire Serial; Mounting Technology: Surface Mount; Code_JEDEC: MO-203; ComponentLink1Description: Manufacturer URL; ComponentLink1URL: http://www.maximintegrated.com/; ComponentLink2Description: Datasheet; ComponentLink2URL: http://datasheets.maximintegrated.com/en/ds/MAX5460-MAX5468.pdf; ComponentLink3Description: Package Specification; ComponentLink3URL: http://pdfserv.maximintegrated.com/package_dwgs/21-0076.PDF
footprint MAXM-X5+1_N (SOT23, 5-Leads, Body 2x1.25mm, Pitch 0.65mm, IPC Medium Density)
footprint MAXM-X5+1_L (SOT23, 5-Leads, Body 2x1.25mm, Pitch 0.65mm, IPC High Density)
footprint MAXM-X5+1_M (SOT23, 5-Leads, Body 2x1.25mm, Pitch 0.65mm, IPC Low Density)
pins: 1 VDD (power) "Power Supply", 2 GND (power) "Ground", 3 U/~{D} (in) "Up/D\o\w\n\ Control Input. With C\S\ low, a low-to-high transition increments or decrements the wiper position", 4 ~{CS} (in) "Chip Select Input. A high-to-low C\S\ transition determines the mode: increment if U/D\ is high, or decrement if U/D\ is low", 5 H "High Terminal of Resistor"

## MAX5460EXK-T
designator U?
FleaPot 2-Wire Digital Potentiometers with 2-Wire Serial Control Interface, Volatile, Linear Taper, 32 Steps, -40 to 85 degC, 5-pin SC70 (X5-1), Tape and Reel; PartNumber: MAX5460EXK-T; DatasheetVersion: Rev. 3; PackageVersion: Rev. F, 06/2011; PackageReference: X5-1; PackageDescription: 5-Pin SC70 Transistor Package (X5-1), Body 2 x 1.25 mm, Pitch 0.65 mm; Supplier 1: Mouser; Supplier Part Number 1: N/A; Control Interface: 2-Wire Serial; Mounting Technology: Surface Mount; Code_JEDEC: MO-203; ComponentLink1Description: Manufacturer URL; ComponentLink1URL: http://www.maximintegrated.com/; ComponentLink2Description: Datasheet; ComponentLink2URL: http://datasheets.maximintegrated.com/en/ds/MAX5460-MAX5468.pdf; ComponentLink3Description: Package Specification; ComponentLink3URL: http://pdfserv.maximintegrated.com/package_dwgs/21-0076.PDF
footprint MAXM-X5-1_N (SOT23, 5-Leads, Body 2x1.25mm, Pitch 0.65mm, IPC Medium Density)
footprint MAXM-X5-1_L (SOT23, 5-Leads, Body 2x1.25mm, Pitch 0.65mm, IPC High Density)
footprint MAXM-X5-1_M (SOT23, 5-Leads, Body 2x1.25mm, Pitch 0.65mm, IPC Low Density)
pins: 1 VDD (power) "Power Supply", 2 GND (power) "Ground", 3 U/~{D} (in) "Up/D\o\w\n\ Control Input. With C\S\ low, a low-to-high transition increments or decrements the wiper position", 4 ~{CS} (in) "Chip Select Input. A high-to-low C\S\ transition determines the mode: increment if U/D\ is high, or decrement if U/D\ is low", 5 H "High Terminal of Resistor"

## MAX5461EXT
designator U?
FleaPot, 2-Wire Digital Potentiometers with 2-Wire Serial Control Interface, Volatile, Linear Taper, 32 Steps, -40 to 85 degC, 6-pin SC70 (X6SN-1); PartNumber: MAX5461EXT; DatasheetVersion: Rev. 3; PackageVersion: Rev. H, 01/2010; PackageReference: X6SN-1; PackageDescription: 6-Pin SC70 Transistor Package (X6SN-1), Body 2 x 1.25 mm, Pitch 0.65 mm; Supplier 1: Mouser; Supplier Part Number 1: N/A; Control Interface: 2-Wire Serial; Mounting Technology: Surface Mount; Code_JEDEC: MO-203; ComponentLink1Description: Manufacturer URL; ComponentLink1URL: http://www.maximintegrated.com/; ComponentLink2Description: Datasheet; ComponentLink2URL: http://datasheets.maximintegrated.com/en/ds/MAX5460-MAX5468.pdf; ComponentLink3Description: Package Specification; ComponentLink3URL: http://pdfserv.maximintegrated.com/package_dwgs/21-0077.PDF
footprint MAXM-X6SN-1_N (SOT23, 6-Leads, Body 2x1.25mm, Pitch 0.65mm, IPC Medium Density)
footprint MAXM-X6SN-1_L (SOT23, 6-Leads, Body 2x1.25mm, Pitch 0.65mm, IPC High Density)
footprint MAXM-X6SN-1_M (SOT23, 6-Leads, Body 2x1.25mm, Pitch 0.65mm, IPC Low Density)
pins: 1 VDD (power) "Power Supply", 2 GND (power) "Ground", 3 U/~{D} (in) "Up/D\o\w\n\ Control Input. With C\S\ low, a low-to-high transition increments or decrements the wiper position", 4 ~{CS} (in) "Chip Select Input. A high-to-low C\S\ transition determines the mode: increment if U/D\ is high, or decrement if U/D\ is low", 5 L "Low Terminal of Resistor", 6 H "High Terminal of Resistor"

## MAX5461EXT+
designator U?
FleaPot, 2-Wire Digital Potentiometers with 2-Wire Serial Control Interface, Volatile, Linear Taper, 32 Steps, -40 to 85 degC, 6-pin SC70 (X6SN+1), Pb-Free; PartNumber: MAX5461EXT+; DatasheetVersion: Rev. 3; PackageVersion: Rev. H, 01/2010; PackageReference: X6SN+1; PackageDescription: 6-Pin SC70 Transistor Package (X6SN+1), Body 2 x 1.25 mm, Pitch 0.65 mm; Supplier 1: Mouser; Supplier Part Number 1: N/A; Control Interface: 2-Wire Serial; Mounting Technology: Surface Mount; Code_JEDEC: MO-203; ComponentLink1Description: Manufacturer URL; ComponentLink1URL: http://www.maximintegrated.com/; ComponentLink2Description: Datasheet; ComponentLink2URL: http://datasheets.maximintegrated.com/en/ds/MAX5460-MAX5468.pdf; ComponentLink3Description: Package Specification; ComponentLink3URL: http://pdfserv.maximintegrated.com/package_dwgs/21-0077.PDF
footprint MAXM-X6SN+1_N (SOT23, 6-Leads, Body 2x1.25mm, Pitch 0.65mm, IPC Medium Density)
footprint MAXM-X6SN+1_L (SOT23, 6-Leads, Body 2x1.25mm, Pitch 0.65mm, IPC High Density)
footprint MAXM-X6SN+1_M (SOT23, 6-Leads, Body 2x1.25mm, Pitch 0.65mm, IPC Low Density)
pins: 1 VDD (power) "Power Supply", 2 GND (power) "Ground", 3 U/~{D} (in) "Up/D\o\w\n\ Control Input. With C\S\ low, a low-to-high transition increments or decrements the wiper position", 4 ~{CS} (in) "Chip Select Input. A high-to-low C\S\ transition determines the mode: increment if U/D\ is high, or decrement if U/D\ is low", 5 L "Low Terminal of Resistor", 6 H "High Terminal of Resistor"

## MAX5461EXT+T
designator U?
FleaPot, 2-Wire Digital Potentiometers with 2-Wire Serial Control Interface, Volatile, Linear Taper, 32 Steps, -40 to 85 degC, 6-pin SC70 (X6SN+1), Pb-Free, Tape and Reel; PartNumber: MAX5461EXT+T; DatasheetVersion: Rev. 3; PackageVersion: Rev. H, 01/2010; PackageReference: X6SN+1; PackageDescription: 6-Pin SC70 Transistor Package (X6SN+1), Body 2 x 1.25 mm, Pitch 0.65 mm; Supplier 1: Digi-Key; Supplier Part Number 1: MAX5461EXT+TTR-ND; Supplier 2: Digi-Key; Supplier Part Number 2: MAX5461EXT+TCT-ND; Supplier 3: Digi-Key; Supplier Part Number 3: MAX5461EXT+TDKR-ND; Supplier 4: Mouser; Supplier Part Number 4: 700-MAX5461EXTT; Control Interface: 2-Wire Serial; Mounting Technology: Surface Mount; Code_JEDEC: MO-203; ComponentLink1Description: Manufacturer URL; ComponentLink1URL: http://www.maximintegrated.com/; ComponentLink2Description: Datasheet; ComponentLink2URL: http://datasheets.maximintegrated.com/en/ds/MAX5460-MAX5468.pdf; ComponentLink3Description: Package Specification; ComponentLink3URL: http://pdfserv.maximintegrated.com/package_dwgs/21-0077.PDF
footprint MAXM-X6SN+1_N (SOT23, 6-Leads, Body 2x1.25mm, Pitch 0.65mm, IPC Medium Density)
footprint MAXM-X6SN+1_L (SOT23, 6-Leads, Body 2x1.25mm, Pitch 0.65mm, IPC High Density)
footprint MAXM-X6SN+1_M (SOT23, 6-Leads, Body 2x1.25mm, Pitch 0.65mm, IPC Low Density)
pins: 1 VDD (power) "Power Supply", 2 GND (power) "Ground", 3 U/~{D} (in) "Up/D\o\w\n\ Control Input. With C\S\ low, a low-to-high transition increments or decrements the wiper position", 4 ~{CS} (in) "Chip Select Input. A high-to-low C\S\ transition determines the mode: increment if U/D\ is high, or decrement if U/D\ is low", 5 L "Low Terminal of Resistor", 6 H "High Terminal of Resistor"

## MAX5461EXT-T
designator U?
FleaPot, 2-Wire Digital Potentiometers with 2-Wire Serial Control Interface, Volatile, Linear Taper, 32 Steps, -40 to 85 degC, 6-pin SC70 (X6SN-1), Tape and Reel; PartNumber: MAX5461EXT-T; DatasheetVersion: Rev. 3; PackageVersion: Rev. H, 01/2010; PackageReference: X6SN-1; PackageDescription: 6-Pin SC70 Transistor Package (X6SN-1), Body 2 x 1.25 mm, Pitch 0.65 mm; Supplier 1: Mouser; Supplier Part Number 1: N/A; Control Interface: 2-Wire Serial; Mounting Technology: Surface Mount; Code_JEDEC: MO-203; ComponentLink1Description: Manufacturer URL; ComponentLink1URL: http://www.maximintegrated.com/; ComponentLink2Description: Datasheet; ComponentLink2URL: http://datasheets.maximintegrated.com/en/ds/MAX5460-MAX5468.pdf; ComponentLink3Description: Package Specification; ComponentLink3URL: http://pdfserv.maximintegrated.com/package_dwgs/21-0077.PDF
footprint MAXM-X6SN-1_N (SOT23, 6-Leads, Body 2x1.25mm, Pitch 0.65mm, IPC Medium Density)
footprint MAXM-X6SN-1_L (SOT23, 6-Leads, Body 2x1.25mm, Pitch 0.65mm, IPC High Density)
footprint MAXM-X6SN-1_M (SOT23, 6-Leads, Body 2x1.25mm, Pitch 0.65mm, IPC Low Density)
pins: 1 VDD (power) "Power Supply", 2 GND (power) "Ground", 3 U/~{D} (in) "Up/D\o\w\n\ Control Input. With C\S\ low, a low-to-high transition increments or decrements the wiper position", 4 ~{CS} (in) "Chip Select Input. A high-to-low C\S\ transition determines the mode: increment if U/D\ is high, or decrement if U/D\ is low", 5 L "Low Terminal of Resistor", 6 H "High Terminal of Resistor"

## MAX5462EXT+
designator U?
FleaPot, Digital Potentiometers with 2-Wire Serial Control Interface, Volatile, Linear Taper, 32 Steps, -40 to 85 degC, 6-pin SC70 (X6SN+1), Pb-Free; PartNumber: MAX5462EXT+; DatasheetVersion: Rev. 3; PackageVersion: Rev. H, 01/2010; PackageReference: X6SN+1; PackageDescription: 6-Pin SC70 Transistor Package (X6SN+1), Body 2 x 1.25 mm, Pitch 0.65 mm; Supplier 1: Mouser; Supplier Part Number 1: N/A; Control Interface: 2-Wire Serial; Mounting Technology: Surface Mount; Code_JEDEC: MO-203; ComponentLink1Description: Manufacturer URL; ComponentLink1URL: http://www.maximintegrated.com/; ComponentLink2Description: Datasheet; ComponentLink2URL: http://datasheets.maximintegrated.com/en/ds/MAX5460-MAX5468.pdf; ComponentLink3Description: Package Specification; ComponentLink3URL: http://pdfserv.maximintegrated.com/package_dwgs/21-0077.PDF
footprint MAXM-X6SN+1_N (SOT23, 6-Leads, Body 2x1.25mm, Pitch 0.65mm, IPC Medium Density)
footprint MAXM-X6SN+1_L (SOT23, 6-Leads, Body 2x1.25mm, Pitch 0.65mm, IPC High Density)
footprint MAXM-X6SN+1_M (SOT23, 6-Leads, Body 2x1.25mm, Pitch 0.65mm, IPC Low Density)
pins: 1 VDD (power) "Power Supply", 2 GND (power) "Ground", 3 U/~{D} (in) "Up/D\o\w\n\ Control Input. With C\S\ low, a low-to-high transition increments or decrements the wiper position.", 4 ~{CS} (in) "Chip Select Input. A high-to-low C\S\ transition determines the mode: increment if U/D\ is high, or decrement if U/D\ is low.", 5 W "Wiper Terminal of Resistor", 6 H "High Terminal of Resistor"